# Altium footprint library Full_lib.PcbLib: 247 footprints (part 9 of 16)
Each footprint in its own frame and in the unit in brackets; x right, y up, seen from the top. Pads: shape width x height; smd on the part's side, far side on the other; paste and mask are expansions set on the pad; w line width, h text height; cw(c..) or ccw(c..) is an arc to the next point about the centre after c.
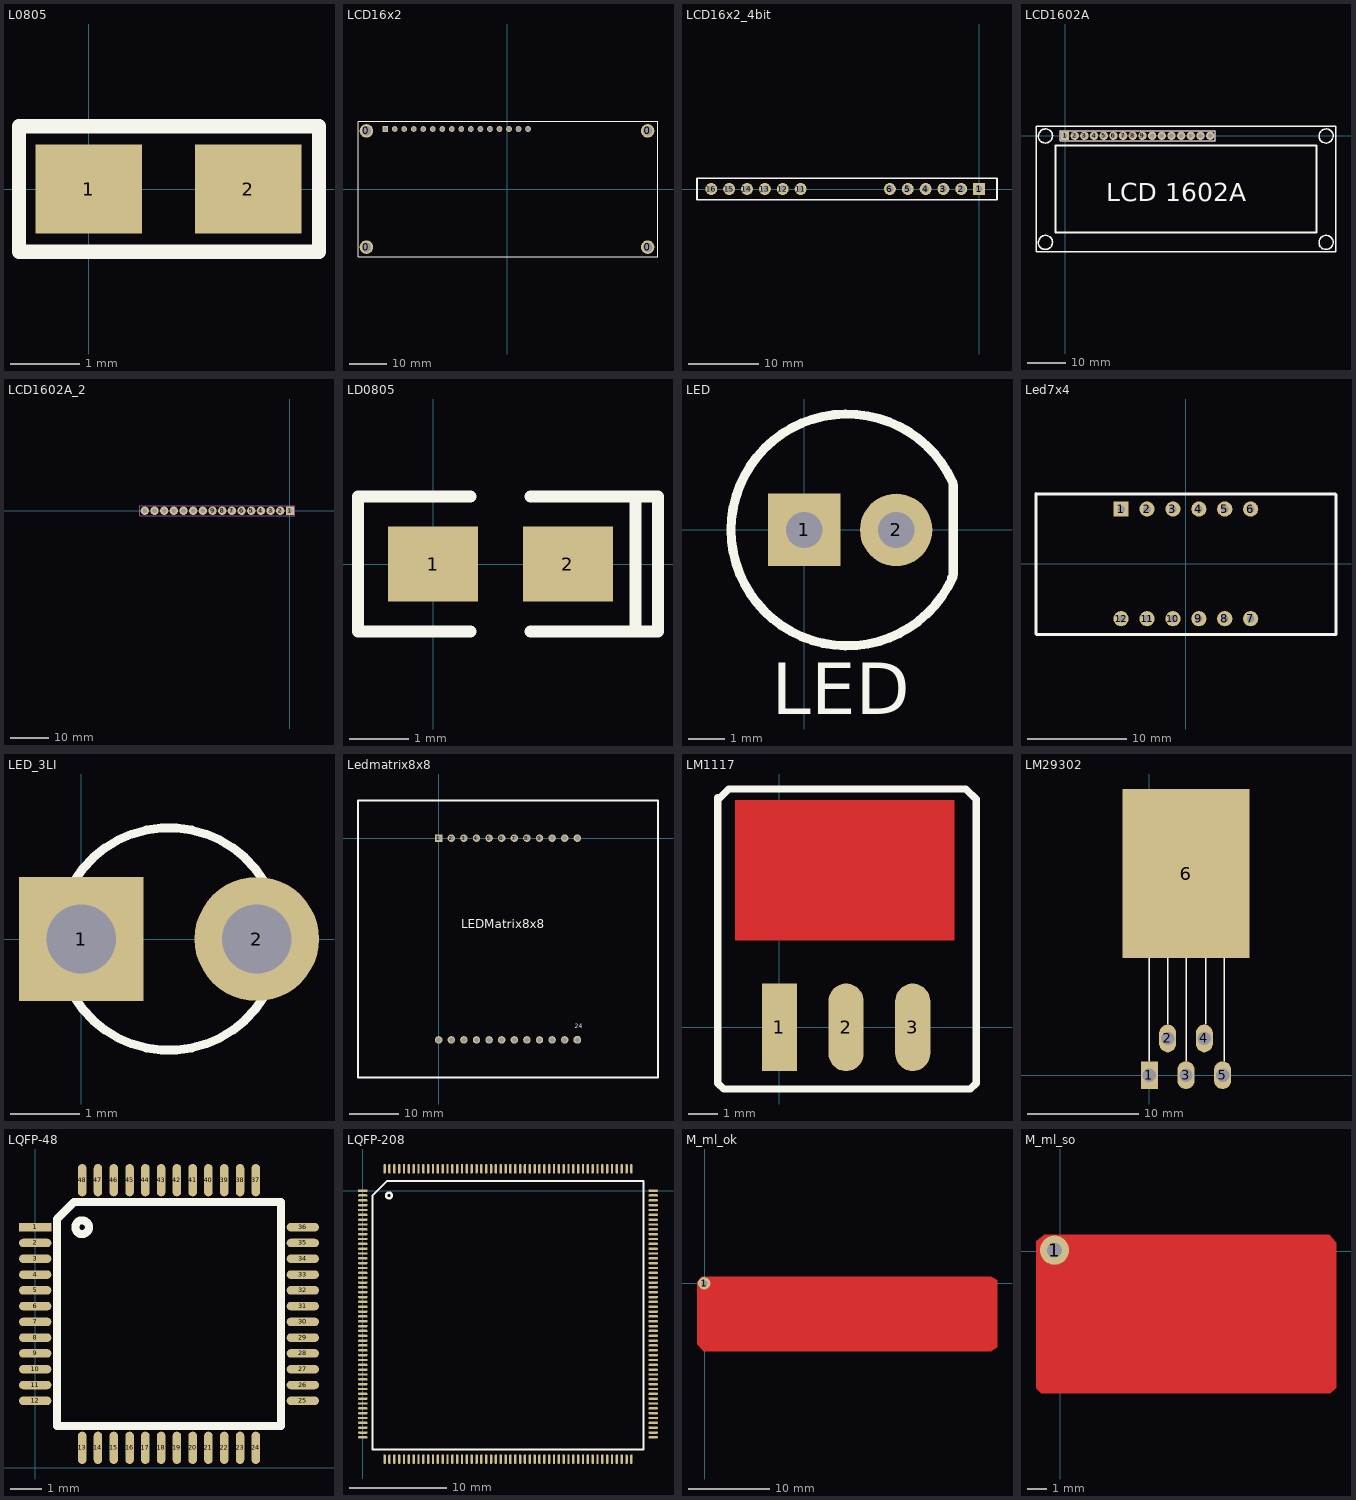
[diagram p8: the footprints below, top view; thin cyan lines are the x and y axes]

## L0805 [mil]
pads (2):
  rect 60x50 smd: 1(0,0) 2(90,0)
Top Overlay:
  lines w8: -39.37,-35.43 129.92,-35.43 129.92,35.43 -39.37,35.43 -39.37,-35.43

## LCD16x2 [mm]
pads (20):
  round 3.6 hole 2.5: 0(-37.5,-15.5) 0(-37.5,15.5) 0(37.5,-15.5) 0(37.5,15.5)
  rect 1.524x1.524 hole 1: 1(-32.5,16)
  round 1.524 hole 1: 2(-29.96,16) 3(-27.42,16) 4(-24.88,16) 5(-22.34,16) 6(-19.8,16) 7(-17.26,16) 8(-14.72,16) 9(-12.18,16) 10(-9.64,16) 11(-7.1,16) 12(-4.56,16) 13(-2.02,16) 14(0.52,16) 15(3.06,16) 16(5.6,16)
Top Overlay:
  lines w0.254: -39.751,-18.034 -39.751,17.966 ; -39.751,18.034 40.259,18.034 ; -39.741,-18.034 40.259,-18.034 ; 40.259,-18 40.259,18

## LCD16x2_4bit [mm]
pads (12):
  rect 1.7x1.7 hole 1: 1(0,0)
  round 1.7 hole 1: 2(-2.54,0) 3(-5.08,0) 4(-7.62,0) 5(-10.16,0) 6(-12.7,0) 11(-25.4,0) 12(-27.94,0) 13(-30.48,0) 14(-33.02,0) 15(-35.56,0) 16(-38.1,0)
Top Overlay:
  lines w0.254: -40.132,-1.524 -40.132,1.524 2.54,1.524 2.54,-1.524 -40.132,-1.524

## LCD1602A [mm]
pads (16):
  rect 2.2x2.2 hole 1.2: 1(0,0)
  round 2.2 hole 1.2: 2(2.54,0) 3(5.08,0) 4(7.62,0) 5(10.16,0) 6(12.7,0) 7(15.24,0) 8(17.78,0) 9(20.32,0) 10(22.86,0) 11(25.4,0) 12(27.94,0) 13(30.48,0) 14(33.02,0) 15(35.56,0) 16(38.1,0)
Top Overlay:
  lines w0.203: -1.27,-1.27 39.37,-1.27 39.37,1.27 -1.27,1.27 -1.27,-1.27
  lines w0.381: -7.62,-30.48 71.12,-30.48 71.12,2.54 -7.62,2.54 -7.62,-30.48 ; -6.35,-26.67 ccw(c-5.186,-28.046) -3.81,-29.21 ccw(c-5.08,-27.94) -6.35,-26.67 ; -6.35,1.27 ccw(c-5.186,-0.106) -3.81,-1.27 ccw(c-5.08,0) -6.35,1.27 ; 67.31,-26.67 ccw(c68.474,-28.046) 69.85,-29.21 ccw(c68.58,-27.94) 67.31,-26.67 ; 67.31,1.27 ccw(c68.474,-0.106) 69.85,-1.27 ccw(c68.58,0) 67.31,1.27
  lines w0.508: -2.54,-25.4 -2.54,-2.54 66.04,-2.54 66.04,-25.4 -2.54,-25.4
  text "LCD 1602A" at 10.795,-17.145 h4.76
Mechanical 1:
  lines w0.203: -1.27,-1.27 39.37,-1.27 39.37,1.27 -1.27,1.27 -1.27,-1.27

## LCD1602A_2 [mm]
pads (16):
  rect 2.2x2.2 hole 1.2: 1(0,0)
  round 2.2 hole 1.2: 2(-2.54,0) 3(-5.08,0) 4(-7.62,0) 5(-10.16,0) 6(-12.7,0) 7(-15.24,0) 8(-17.78,0) 9(-20.32,0) 10(-22.86,0) 11(-25.4,0) 12(-27.94,0) 13(-30.48,0) 14(-33.02,0) 15(-35.56,0) 16(-38.1,0)
Bottom Overlay:
  lines w0.203: -39.37,-1.27 1.27,-1.27 1.27,1.27 -39.37,1.27 -39.37,-1.27
  lines w0.381: -71.12,-30.48 7.62,-30.48 7.62,2.54 -71.12,2.54 -71.12,-30.48 ; -69.85,-29.21 cw(c-68.58,-27.94) -67.31,-26.67 cw(c-68.474,-28.046) -69.85,-29.21 ; -69.85,-1.27 cw(c-68.58,0) -67.31,1.27 cw(c-68.474,-0.106) -69.85,-1.27 ; 3.81,-29.21 cw(c5.08,-27.94) 6.35,-26.67 cw(c5.186,-28.046) 3.81,-29.21 ; 3.81,-1.27 cw(c5.08,0) 6.35,1.27 cw(c5.186,-0.106) 3.81,-1.27
  lines w0.508: -66.04,-25.4 -66.04,-2.54 2.54,-2.54 2.54,-25.4 -66.04,-25.4
Mechanical 2:
  lines w0.203: -39.37,-1.27 1.27,-1.27 1.27,1.27 -39.37,1.27 -39.37,-1.27

## LD0805 [mil]
pads (2):
  rect 60x50 smd: 1(0,0) 2(90,0)
Top Overlay:
  lines w8: 25,-45 -37,-45 -50,-45 -50,45 -37,45 25,45 ; 127,-45 65,-45 135,-45 ; 127,45 65,45 135,45 ; 135,-45 135,45 ; 135,-45 150,-45 150,45 135,45

## LED [mm]
pads (2):
  rect 2x2 hole 1: 1(0,0)
  round 2 hole 1: 2(2.54,0)
Top Overlay:
  lines w0.254: 4.074,-1.331 4.105,-1.3 cw(c1.182,0) 4.105,1.3 ; 4.115,-1.219 4.115,1.229
  text "LED" at -0.889,-5.08 h1.42

## Led7x4 [mil]
height 31.5
pads (12):
  rect 60x60 hole 30: 1(-255.91,216.54)
  round 60 hole 30: 2(-153.54,216.54) 3(-51.18,216.54) 4(51.18,216.54) 5(153.54,216.54) 6(255.91,216.54) 7(255.91,-216.54) 8(153.54,-216.54) 9(51.18,-216.54) 10(-51.18,-216.54) 11(-153.54,-216.54) 12(-255.91,-216.54)
Top Overlay:
  lines w10: -592,278 -592,-277 -590,-279 593,-279 593,273 590,276 -591,276

## LED_3LI [mm]
pads (2):
  rect 1.8x1.8 hole 1: 1(0,0)
  round 1.8 hole 1: 2(2.54,0)
Top Overlay:
  circle w0.127: c1.27,0 r1.61

## Ledmatrix8x8 [mm]
height 5
pads (24):
  rect 1.5x1.5 hole 1: 1(0,0)
  round 1.5 hole 1: 2(2.54,0) 3(5.08,0) 4(7.62,0) 5(10.16,0) 6(12.7,0) 7(15.24,0) 8(17.78,0) 9(20.32,0) 10(22.86,0) 11(25.4,0) 12(27.94,0) 13(0,-40.65) 14(2.54,-40.65) 15(5.08,-40.65) 16(7.62,-40.65) 17(10.16,-40.65) 18(12.7,-40.65) 19(15.24,-40.65) 20(17.78,-40.65) 21(20.32,-40.65) 22(22.86,-40.65) 23(25.4,-40.65)
  oct 1.5x1.5 hole 1: 24(27.94,-40.65)
Top Overlay:
  lines w0.381: -13.208,-48.26 27.94,-48.26 44.196,-48.26 44.196,-40.132 ; -12.7,-48.26 -16.256,-48.26 -16.256,0 -16.256,7.62 0,7.62 42.164,7.62 44.196,7.62 44.196,-40.64
  text "24" at 27.432,-38.608 h1.52
  text "LEDMatrix8x8" at 4.572,-18.796 h3

## LM1117 [mm]
pads (3):
  rect 1.2x3 smd: 1(0,0)
  oval 1.2x3 smd: 2(2.28,0) 3(4.56,0)
Top Layer:
  rectangle: -1.524,2.972 5.994,7.772
Top Overlay:
  lines w0.254: -2.108,7.849 -2.108,-1.905 -1.905,-2.108 6.528,-2.108 6.731,-1.905 6.731,7.798 6.375,8.153 -1.727,8.153 -2.083,7.798

## LM29302 [mil]
pads (6):
  rect 61x98 hole 47: 1(0,0)
  oval 60.63x98.43 hole 47.23: 2(65,130) 3(130,0) 4(195,130) 5(260,0)
  rect 450x600 smd: 6(130,715)
Top Overlay:
  lines w5: 0,50 0,415 ; 65,180 65,415 ; 130,50 130,415 ; 200,180 200,415 ; 265,50 265,415

## LQFP-48 [mm]
pads (48):
  rect 1.025x0.27 smd: 1(0,7.62)
  oval 1.025x0.27 smd: 2(0,7.12) 3(0,6.62) 4(0,6.12) 5(0,5.62) 6(0,5.12) 7(0,4.62) 8(0,4.12) 9(0,3.62) 10(0,3.12) 11(0,2.62) 12(0,2.12) 25(8.48,2.12) 26(8.48,2.62) 27(8.48,3.12) 28(8.48,3.62) 29(8.48,4.12) 30(8.48,4.62) 31(8.48,5.12) 32(8.48,5.62) 33(8.48,6.12) 34(8.48,6.62) 35(8.48,7.12) 36(8.48,7.62)
  oval 0.27x1.025 smd: 13(1.49,0.63) 14(1.99,0.63) 15(2.49,0.63) 16(2.99,0.63) 17(3.49,0.63) 18(3.99,0.63) 19(4.49,0.63) 20(4.99,0.63) 21(5.49,0.63) 22(5.99,0.63) 23(6.49,0.63) 24(6.99,0.63) 37(6.99,9.11) 38(6.49,9.11) 39(5.99,9.11) 40(5.49,9.11) 41(4.99,9.11) 42(4.49,9.11) 43(3.99,9.11) 44(3.49,9.11) 45(2.99,9.11) 46(2.49,9.11) 47(1.99,9.11) 48(1.49,9.11)
Top Overlay:
  circle w0.254: c1.488,7.62 r0.218
  lines w0.254: 0.69,1.32 7.79,1.32 7.79,8.42 1.89,8.42 1.23,8.42 0.69,7.88 0.69,7.22 0.69,1.32

## LQFP-208 [mm]
pads (208):
  rect 1x0.25 smd: 1(0,0)
  oval 1x0.25 smd: 2(0,-0.5) 3(0,-1) 4(0,-1.5) 5(0,-2) 6(0,-2.5) 7(0,-3) 8(0,-3.5) 9(0,-4) 10(0,-4.5) 11(0,-5) 12(0,-5.5) 13(0,-6) 14(0,-6.5) 15(0,-7) 16(0,-7.5) 17(0,-8) 18(0,-8.5) 19(0,-9) 20(0,-9.5) 21(0,-10) 22(0,-10.5) 23(0,-11) 24(0,-11.5) 25(0,-12) 26(0,-12.5) 27(0,-13) 28(0,-13.5) 29(0,-14) 30(0,-14.5) 31(0,-15) 32(0,-15.5) 33(0,-16) 34(0,-16.5) 35(0,-17) 36(0,-17.5) 37(0,-18) 38(0,-18.5) 39(0,-19) 40(0,-19.5) 41(0,-20) 42(0,-20.5) 43(0,-21) 44(0,-21.5) 45(0,-22) 46(0,-22.5) 47(0,-23) 48(0,-23.5) 49(0,-24) 50(0,-24.5) 51(0,-25) 52(0,-25.5) 105(30,-25.5) 106(30,-25) 107(30,-24.5) 108(30,-24) 109(30,-23.5) 110(30,-23) 111(30,-22.5) 112(30,-22) 113(30,-21.5) 114(30,-21) 115(30,-20.5) 116(30,-20) 117(30,-19.5) 118(30,-19) 119(30,-18.5) 120(30,-18) 121(30,-17.5) 122(30,-17) 123(30,-16.5) 124(30,-16) 125(30,-15.5) 126(30,-15) 127(30,-14.5) 128(30,-14) 129(30,-13.5) 130(30,-13) 131(30,-12.5) 132(30,-12) 133(30,-11.5) 134(30,-11) 135(30,-10.5) 136(30,-10) 137(30,-9.5) 138(30,-9) 139(30,-8.5) 140(30,-8) 141(30,-7.5) 142(30,-7) 143(30,-6.5) 144(30,-6) 145(30,-5.5) 146(30,-5) 147(30,-4.5) 148(30,-4) 149(30,-3.5) 150(30,-3) 151(30,-2.5) 152(30,-2) 153(30,-1.5) 154(30,-1) 155(30,-0.5) 156(30,0)
  oval 0.25x1 smd: 53(2.25,-27.75) 54(2.75,-27.75) 55(3.25,-27.75) 56(3.75,-27.75) 57(4.25,-27.75) 58(4.75,-27.75) 59(5.25,-27.75) 60(5.75,-27.75) 61(6.25,-27.75) 62(6.75,-27.75) 63(7.25,-27.75) 64(7.75,-27.75) 65(8.25,-27.75) 66(8.75,-27.75) 67(9.25,-27.75) 68(9.75,-27.75) 69(10.25,-27.75) 70(10.75,-27.75) 71(11.25,-27.75) 72(11.75,-27.75) 73(12.25,-27.75) 74(12.75,-27.75) 75(13.25,-27.75) 76(13.75,-27.75) 77(14.25,-27.75) 78(14.75,-27.75) 79(15.25,-27.75) 80(15.75,-27.75) 81(16.25,-27.75) 82(16.75,-27.75) 83(17.25,-27.75) 84(17.75,-27.75) 85(18.25,-27.75) 86(18.75,-27.75) 87(19.25,-27.75) 88(19.75,-27.75) 89(20.25,-27.75) 90(20.75,-27.75) 91(21.25,-27.75) 92(21.75,-27.75) 93(22.25,-27.75) 94(22.75,-27.75) 95(23.25,-27.75) 96(23.75,-27.75) 97(24.25,-27.75) 98(24.75,-27.75) 99(25.25,-27.75) 100(25.75,-27.75) 101(26.25,-27.75) 102(26.75,-27.75) 103(27.25,-27.75) 104(27.75,-27.75) 157(27.75,2.25) 158(27.25,2.25) 159(26.75,2.25) 160(26.25,2.25) 161(25.75,2.25) 162(25.25,2.25) 163(24.75,2.25) 164(24.25,2.25) 165(23.75,2.25) 166(23.25,2.25) 167(22.75,2.25) 168(22.25,2.25) 169(21.75,2.25) 170(21.25,2.25) 171(20.75,2.25) 172(20.25,2.25) 173(19.75,2.25) 174(19.25,2.25) 175(18.75,2.25) 176(18.25,2.25) 177(17.75,2.25) 178(17.25,2.25) 179(16.75,2.25) 180(16.25,2.25) 181(15.75,2.25) 182(15.25,2.25) 183(14.75,2.25) 184(14.25,2.25) 185(13.75,2.25) 186(13.25,2.25) 187(12.75,2.25) 188(12.25,2.25) 189(11.75,2.25) 190(11.25,2.25) 191(10.75,2.25) 192(10.25,2.25) 193(9.75,2.25) 194(9.25,2.25) 195(8.75,2.25) 196(8.25,2.25) 197(7.75,2.25) 198(7.25,2.25) 199(6.75,2.25) 200(6.25,2.25) 201(5.75,2.25) 202(5.25,2.25) 203(4.75,2.25) 204(4.25,2.25) 205(3.75,2.25) 206(3.25,2.25) 207(2.75,2.25) 208(2.25,2.25)
Top Overlay:
  circle w0.254: c2.707,-0.5 r0.293
  lines w0.2: 1,-26.75 29,-26.75 29,1 2.5,1 1,-0.5 1,-26.75

## M_ml_ok [mil]
pads (1):
  round 60 hole 30: 1(-2,-1)
Top Layer:
  region: -14,30 -37,7 -37,-298 -5,-330 1393,-331 1422,-312 1422,15 1393,31

## M_ml_so [mil]
pads (1):
  round 60 hole 30: 1(-12,2)
Top Layer:
  region: -50,20 -50,-281 -39,-292 554,-292 566,-280 566,17 552,34 -33,34